# Altium schematic symbol library Logic.SchLib: 16 symbols
Pins are listed as number, name and electrical type; pins without a type are passive.

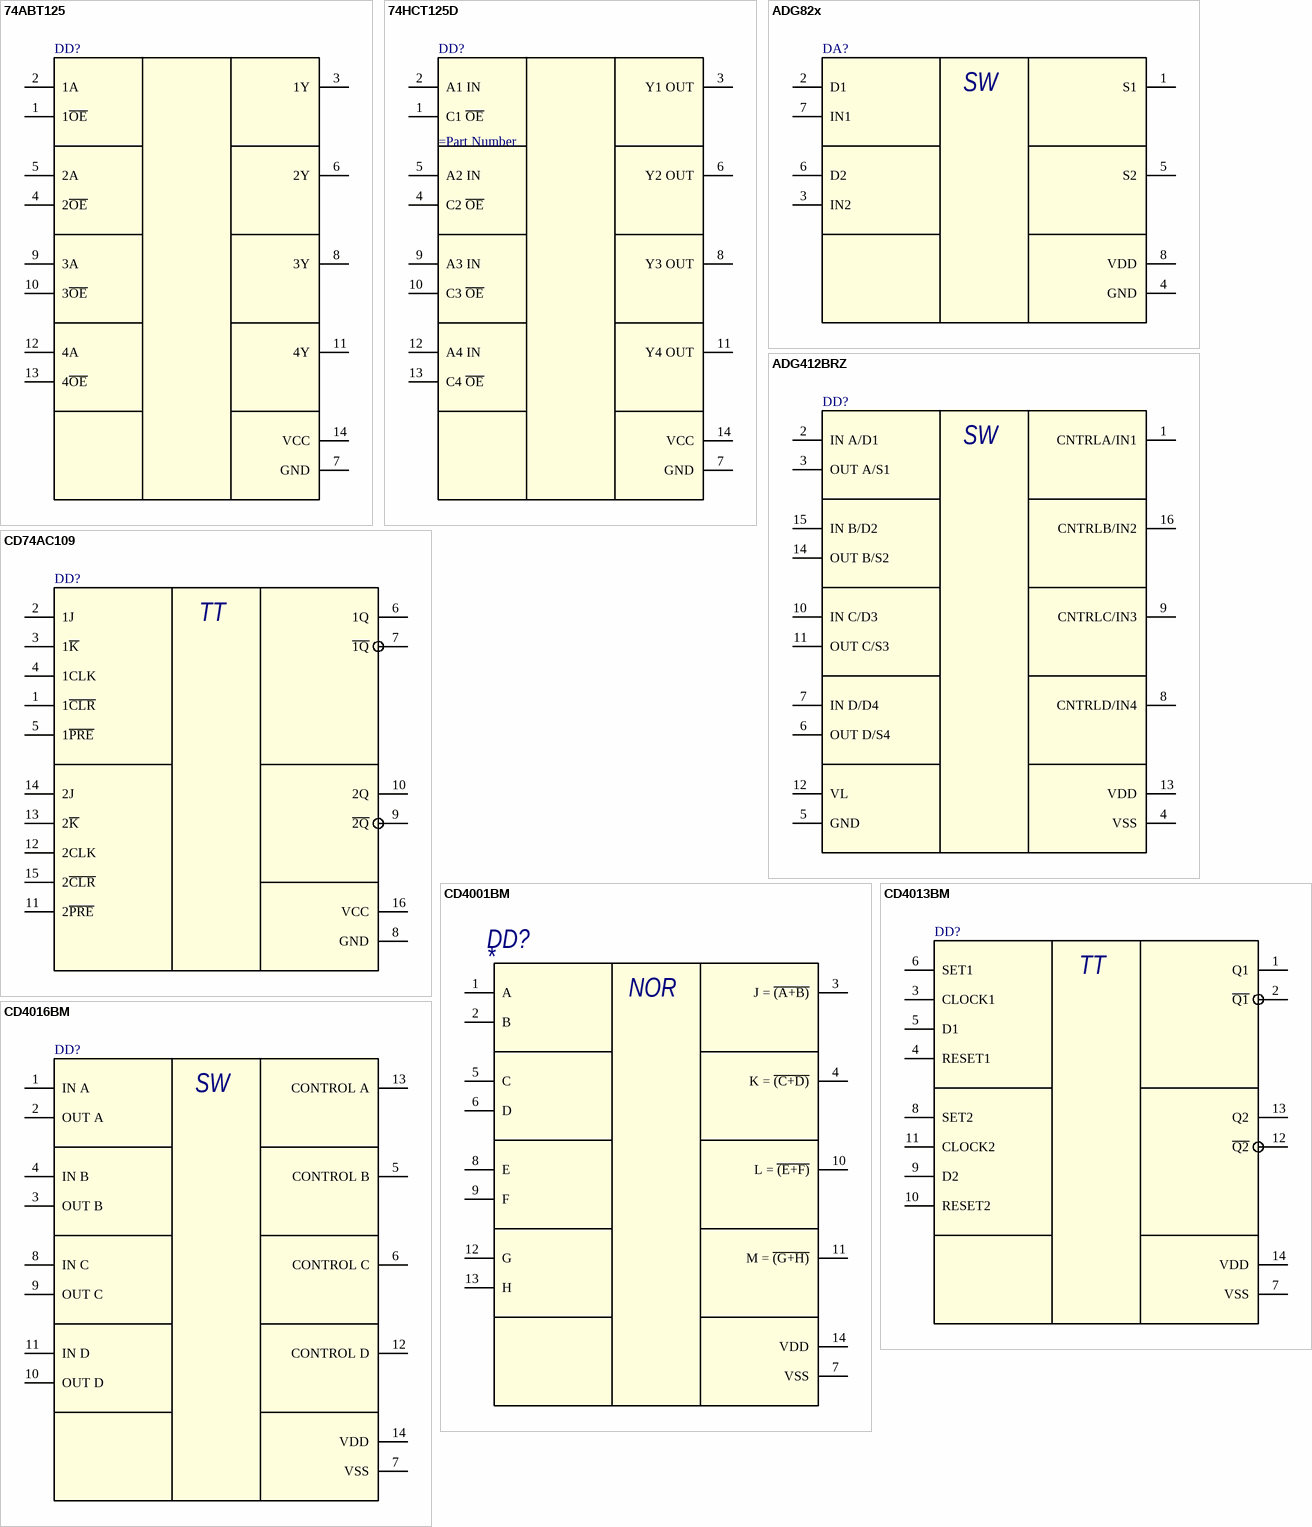
[diagram p0: symbols 74ABT125 to CD4016BM]

## 74ABT125
designator DD?
CMOS Bilateral Analog Switch
pins: 1 1~{OE} (power), 2 1A (power), 3 1Y (power), 4 2~{OE} (power), 5 2A (power), 6 2Y (power), 7 GND (power), 8 3Y (power), 9 3A (power), 10 3~{OE} (power), 11 4Y (power), 12 4A (power), 13 4~{OE} (power), 14 VCC (power)

## 74HCT125D
designator DD?
Quad Tri-State Buffer IC
pins: 1 C1 ~{OE} (power), 2 A1 IN (power), 3 Y1 OUT (power), 4 C2 ~{OE} (power), 5 A2 IN (power), 6 Y2 OUT (power), 7 GND (power), 8 Y3 OUT (power), 9 A3 IN (power), 10 C3 ~{OE} (power), 11 Y4 OUT (power), 12 A4 IN (power), 13 C4 ~{OE} (power), 14 VCC (power)

## ADG82x
designator DA?
Dual SPST Switches
pins: 1 S1 (power), 2 D1 (power), 3 IN2 (power), 4 GND (power), 5 S2 (power), 6 D2 (power), 7 IN1 (power), 8 VDD (power)
text: SW

## ADG412BRZ
designator DD?
CMOS Bilateral Analog Switch
pins: 1 CNTRLA/IN1 (power), 2 IN A/D1 (power), 3 OUT A/S1 (power), 4 VSS (power), 5 GND (power), 6 OUT D/S4 (power), 7 IN D/D4 (power), 8 CNTRLD/IN4 (power), 9 CNTRLC/IN3 (power), 10 IN C/D3 (power), 11 OUT C/S3 (power), 12 VL (power), 13 VDD (power), 14 OUT B/S2 (power), 15 IN B/D2 (power), 16 CNTRLB/IN2 (power)
text: SW

## CD74AC109
designator DD?
DUAL J-K POSITIVE-EDGE-TRIGGERED FLIP-FLOPS
pins: 1 1~{CLR} (power), 2 1J (power), 3 1~{K} (power), 4 1CLK (power), 5 1~{PRE} (power), 6 1Q (power), 7 ~{1Q} (power), 8 GND (power), 9 ~{2Q} (power), 10 2Q (power), 11 2~{PRE} (power), 12 2CLK (power), 13 2~{K} (power), 14 2J (power), 15 2~{CLR} (power), 16 VCC (power)
text: TT

## CD4001BM
designator DD?
CMOS NOR Gate 4-Element 2-IN
pins: 1 A, 2 B, 3 J = ~{(A+B)}, 4 K = ~{(C+D)}, 5 C, 6 D, 7 VSS (power), 8 E, 9 F, 10 L = ~{(E+F)}, 11 M = ~{(G+H)}, 12 G, 13 H, 14 VDD (power)
text: NOR

## CD4013BM
designator DD?
CMOS Dual D-Type Flip-Flop
pins: 1 Q1 (power), 2 ~{Q1} (power), 3 CLOCK1 (power), 4 RESET1 (power), 5 D1 (power), 6 SET1 (power), 7 VSS (power), 8 SET2 (power), 9 D2 (power), 10 RESET2 (power), 11 CLOCK2 (power), 12 ~{Q2} (power), 13 Q2 (power), 14 VDD (power)
text: TT

## CD4016BM
designator DD?
CMOS Bilateral Switch
pins: 1 IN A (power), 2 OUT A (power), 3 OUT B (power), 4 IN B (power), 5 CONTROL B (power), 6 CONTROL C (power), 7 VSS (power), 8 IN C (power), 9 OUT C (power), 10 OUT D (power), 11 IN D (power), 12 CONTROL D (power), 13 CONTROL A (power), 14 VDD (power)
text: SW

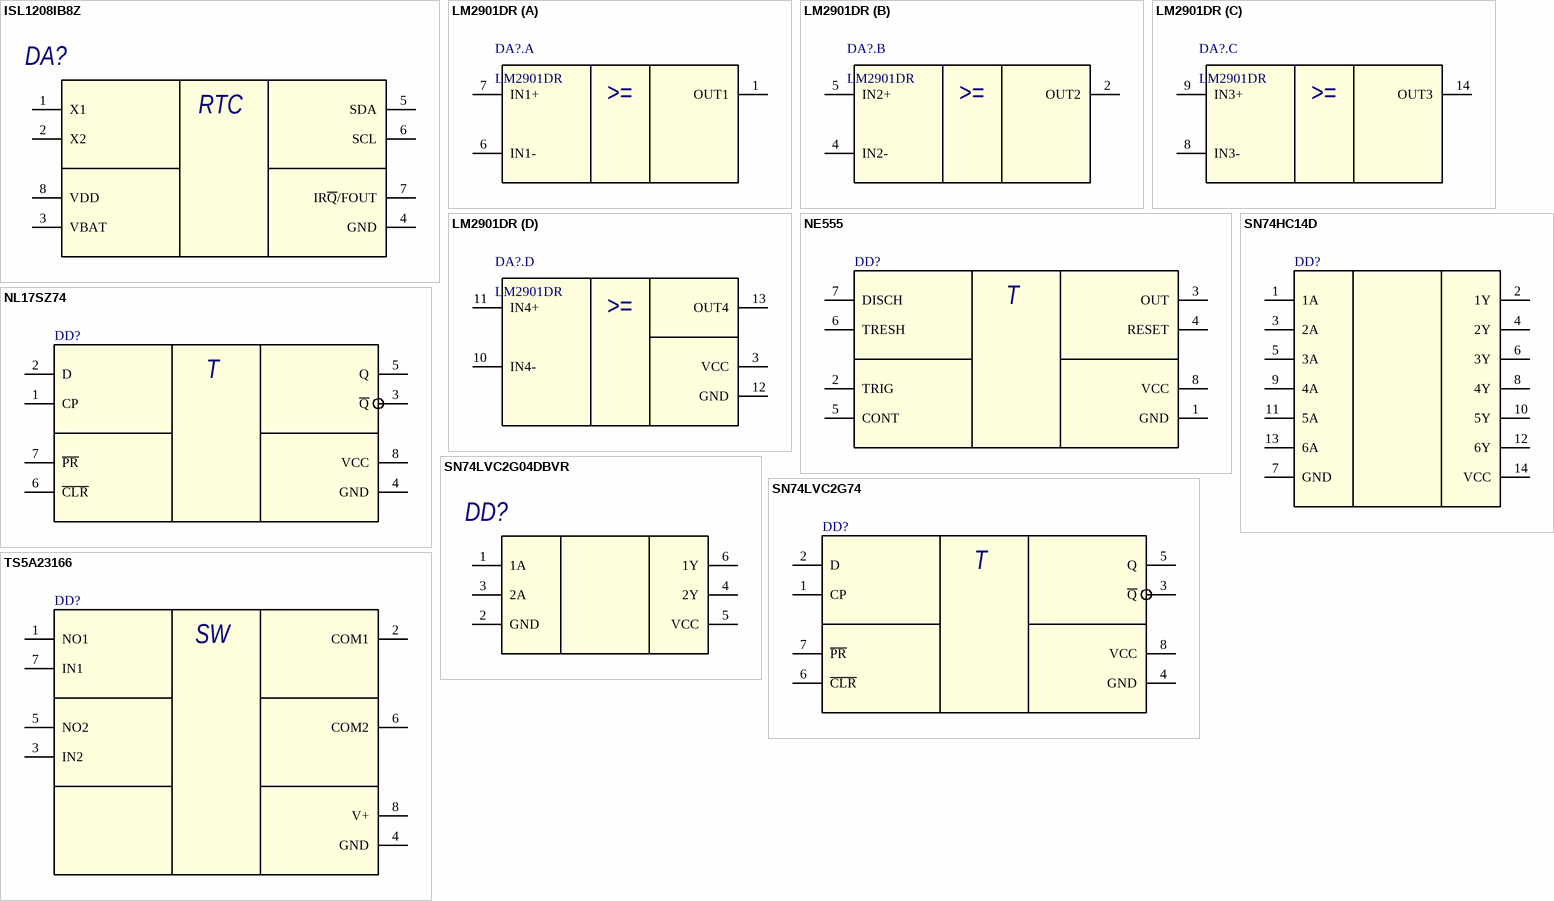
[diagram p1: symbols ISL1208IB8Z to TS5A23166]

## ISL1208IB8Z
designator DA?  (value not drawn)
Часы реального времени/календарь
pins: 1 X1 (power), 2 X2 (power), 3 VBAT (power), 4 GND (power), 5 SDA (power), 6 SCL (power), 7 IR~{Q}/FOUT (power), 8 VDD (power)
text: RTC

## LM2901DR
designator DA?.
Маломощный квадрантный компаратор напряжения
part A pins: 1 OUT1 (power), 6 IN1- (power), 7 IN1+ (power)
part B pins: 2 OUT2 (power), 4 IN2- (power), 5 IN2+ (power)
part C pins: 8 IN3- (power), 9 IN3+ (power), 14 OUT3 (power)
part D pins: 3 VCC (power), 10 IN4- (power), 11 IN4+ (power), 12 GND (power), 13 OUT4 (power)
part A text: >=
part B text: >=
part C text: >=
part D text: >=

## NE555
designator DD?
Precision Timers
pins: 1 GND (power), 2 TRIG (power), 3 OUT (power), 4 RESET (power), 5 CONT (power), 6 TRESH (power), 7 DISCH (power), 8 VCC (power)
text: T

## NL17SZ74
designator DD?
Single D Flip Flop
pins: 1 CP (power), 2 D (power), 3 ~{Q} (power), 4 GND (power), 5 Q (power), 6 ~{CLR} (power), 7 ~{PR} (power), 8 VCC (power)
text: T

## SN74HC14D
designator DD?
Инвертирующий Триггер Шмитта
pins: 1 1A (power), 2 1Y (power), 3 2A (power), 4 2Y (power), 5 3A (power), 6 3Y (power), 7 GND (power), 8 4Y (power), 9 4A (power), 10 5Y (power), 11 5A (power), 12 6Y (power), 13 6A (power), 14 VCC (power)

## SN74LVC2G04DBVR
designator DD?
Инвертирующий Триггер Шмитта
pins: 1 1A (power), 2 GND (power), 3 2A (power), 4 2Y (power), 5 VCC (power), 6 1Y (power)

## SN74LVC2G74
designator DD?
SINGLE POSITIVE-EDGE-TRIGGERED D-TYPE FLIP-FLOP
pins: 1 CP (power), 2 D (power), 3 ~{Q} (power), 4 GND (power), 5 Q (power), 6 ~{CLR} (power), 7 ~{PR} (power), 8 VCC (power)
text: T

## TS5A23166
designator DD?
Dual-SPST Analog Switch
pins: 1 NO1 (power), 2 COM1 (power), 3 IN2 (power), 4 GND (power), 5 NO2 (power), 6 COM2 (power), 7 IN1 (power), 8 V+ (power)
text: SW